# Altium integrated library Diodes SMD - Zener.IntLib: 5 symbols
Pins are listed as number, name and electrical type; pins without a type are passive.

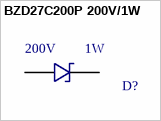
[diagram p0: symbol BZD27C200P 200V/1W]

## BZD27C200P 200V/1W
designator D?, comment Power: 1W  Voltage: 200V  (hidden comment: BZD27C200P 200V/1W - Sub SMA)
Zener Diode 200V 1W ±5% Surface Mount Sub SMA; Manufacturer 1: Taiwan Semiconductor Corporation; Manufacturer 1 PN: BZD27C200P RVG; ComponentLink1Description: Datasheet; ComponentLink1URL: https://www.taiwansemi.com/products/datasheet/BZD27C%20SERIES_AA1806.pdf; Digikey PN: BZD27C200PRVGCT-ND; Notes: *
footprint BZD27C200P 200V/1W - Sub SMA (Zener Diode 200V 1W ±5% Surface Mount Sub SMA)
pins: A, K


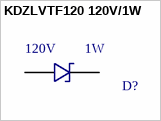
[diagram p1: symbol KDZLVTF120 120V/1W]

## KDZLVTF120 120V/1W
designator D?, comment Voltage: 120V  Power: 1W  (hidden comment: KDZLVTF120 120V/1W - SOD-123)
Zener Diode 120V 1W  Surface Mount SOD-123FL; Manufacturer 1: Rohm Semiconductor; Manufacturer 1 PN: KDZLVTFTR120; Digikey PN: KDZLVTFTR120CT-ND; ComponentLink1Description: Datasheet; ComponentLink1URL: http://rohmfs.rohm.com/en/products/databook/datasheet/discrete/diode/zener/kdzlvtftr120-e.pdf
footprint KDZLVTF120 120V/1W - SOD-123 (Zener Diode 120V 1W  Surface Mount SOD-123FL)
pins: A, K


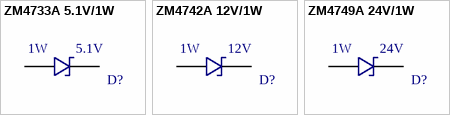
[diagram p2: symbols ZM4733A 5.1V/1W to ZM4749A 24V/1W]

## ZM4733A 5.1V/1W
designator D?, comment Voltage: 5.1V  Power: 1W  (hidden comment: ZM4733A 5.1V/1W - DO-213AB)
Zener Diode 5.1V 1W ±5% Surface Mount DO-213AB; Manufacturer 1: Vishay Semiconductor Diodes Division; Manufacturer 1 PN: ZM4749A-GS08; ComponentLink1Description: Datasheet; ComponentLink1URL: http://www.vishay.com/docs/85786/zm4728a.pdf; Digikey PN: ZM4749A-GS08CT-ND
footprint ZM4733A 5.1V/1W - DO-213AB (Zener Diode 5.1V 1W ±5% Surface Mount DO-213AB)
pins: A, K

## ZM4742A 12V/1W
designator D?, comment Voltage: 12V  Power: 1W  (hidden comment: ZM4742A 12V/1W - DO-213AB)
Zener Diode 12V 1W ±5% Surface Mount DO-213AB; Manufacturer 1: Vishay Semiconductor Diodes Division; Manufacturer 1 PN: ZM4742A-GS08; ComponentLink1Description: Datasheet; ComponentLink1URL: http://www.vishay.com/docs/85786/zm4728a.pdf; Digikey PN: ZM4742A-GS08CT-ND
footprint ZM4742A 12V/1W - DO-213AB (Zener Diode 12V 1W ±5% Surface Mount DO-213AB)
pins: A, K

## ZM4749A 24V/1W
designator D?, comment Voltage: 24V  Power: 1W  (hidden comment: ZM4749A 24V/1W - DO-213AB)
Zener Diode 24V 1W ±5% Surface Mount DO-213AB; Manufacturer 1: Vishay Semiconductor Diodes Division; Manufacturer 1 PN: ZM4749A-GS08; ComponentLink1Description: Datasheet; ComponentLink1URL: http://www.vishay.com/docs/85786/zm4728a.pdf; Digikey PN: ZM4749A-GS08CT-ND
footprint ZM4749A 24V/1W - DO-213AB (Zener Diode 24V 1W ±5% Surface Mount DO-213AB)
pins: A, K